# Altium footprint library pinheader_P8R1.PcbLib: 1 footprints
Each footprint in its own frame and in the unit in brackets; x right, y up, seen from the top. Pads: shape width x height; smd on the part's side, far side on the other; paste and mask are expansions set on the pad; w line width, h text height; cw(c..) or ccw(c..) is an arc to the next point about the centre after c.
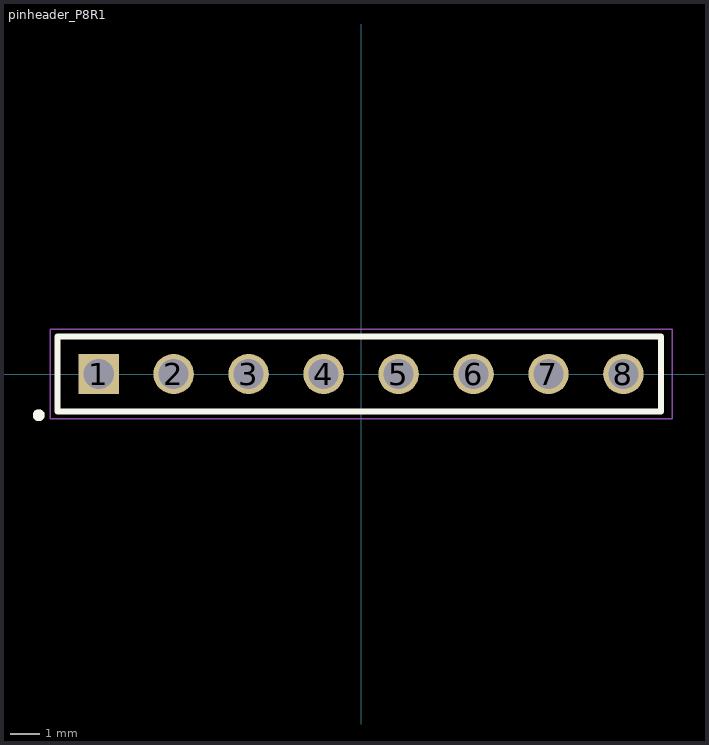
[diagram p0: the footprint, top view; thin cyan lines are the x and y axes]

## pinheader_P8R1 [mm]
pads (8):
  rect 1.37x1.37 hole 1.02: 1(-8.89,0)
  round 1.37 hole 1.02: 2(-6.35,0) 3(-3.81,0) 4(-1.27,0) 5(1.27,0) 6(3.81,0) 7(6.35,0) 8(8.89,0)
Top Overlay:
  circle w0.2: c-10.922,-1.397 r0.1
  lines w0.2: -10.287,-1.27 -10.287,1.27 10.16,1.27 10.16,-1.27 -10.287,-1.27
Mechanical 13:
  circle w0.2: c-10.922,-1.397 r0.1
  lines w0.1: -10.287,-1.27 -10.287,1.27 10.16,1.27 10.16,-1.27 -10.287,-1.27
Mechanical 15:
  lines w0.05: -10.541,-1.524 -10.541,1.524 10.541,1.524 10.541,-1.524 -10.541,-1.524
3D body "TSW-108-07-G-S.stp": height 8.38, standoff -2.54, extent -10.287,-1.27 10.16,1.27